# Altium schematic symbol library BSZ096N10LS5ATMA1 .Schlib: 1 symbol
Pins are listed as number, name and electrical type; pins without a type are passive.

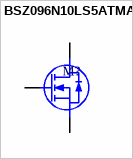
[diagram p0: symbol BSZ096N10LS5ATMA1]

## BSZ096N10LS5ATMA1
designator M?
100V 40A N-Channel
pins: 1 S, 2 G, 3 D